# Altium integrated library Memory - EEPROM.IntLib: 163 symbols (part 3 of 3)
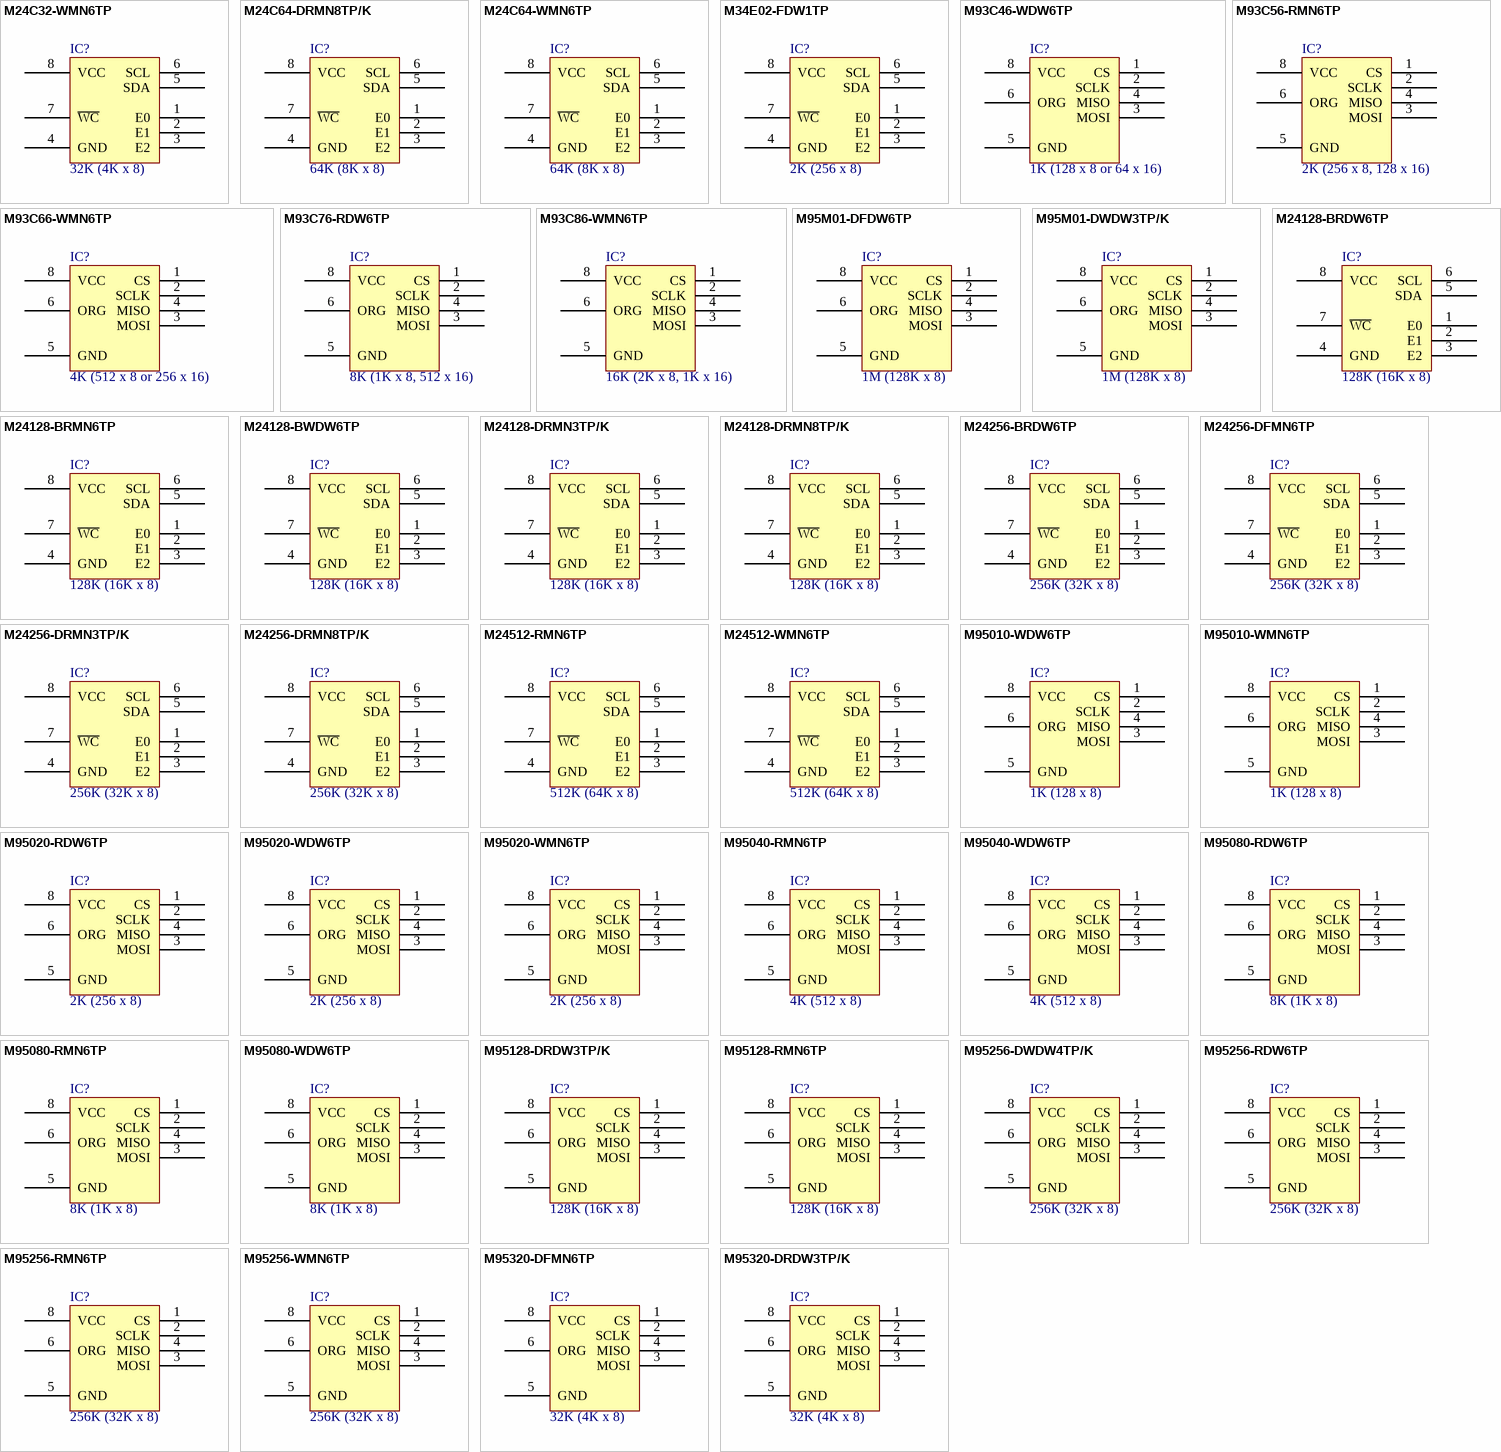
[diagram p6: symbols M24C32-WMN6TP to M95320-DRDW3TP/K]

## M24C64-DRMN8TP/K
designator IC?, comment 64K (8K x 8)
IC EEPROM 64KB SER I2C 8SOIC; Part Number: M24C64-DRMN8TP/K; Manufacturer: STMicroelectronics; Speed: 1MHz; Interface: IC, 2-Wire Serial; Voltage - Supply: 1.8 V ~ 5.5 V; PartId: 8352; Supplier 1: Digi-Key; Supplier Part Number 1: 497-15353-2-ND; ComponentLink1Description: Datasheet; ComponentLink1URL: http://www.st.com/web/en/resource/technical/document/datasheet/DM00155869.pdf; ComponentLink2Description: Digi-Key Listing; ComponentLink2URL: http://www.digikey.com/product-detail/en/M24C64-DRMN8TP%2FK/497-15353-2-ND/5175403; Price: 0.2532; Type: EEPROM; Device Package: 8-SOIC (0.154", 3.90mm Width); Operating Temperature: -40C ~ 105C; Memory Type: EEPROM; Memory Size: 64K (8K x 8)
footprint ST SOIC-8N
pins: 1 E0, 2 E1, 3 E2, 4 GND, 5 SDA, 6 SCL, 7 ~{WC}, 8 VCC

## M24C64-WMN6TP
designator IC?, comment 64K (8K x 8)
IC EEPROM 64KBIT 400KHZ 8SO; Part Number: M24C64-WMN6TP; Manufacturer: STMicroelectronics; Interface: IC, 2-Wire Serial; Voltage - Supply: 2.5 V ~ 5.5 V; PartId: 8345; Supplier 1: Digi-Key; Supplier Part Number 1: 497-8650-2-ND; ComponentLink1Description: Datasheet; ComponentLink1URL: http://www.st.com/web/en/resource/technical/document/datasheet/CD00259166.pdf; ComponentLink2Description: Digi-Key Listing; ComponentLink2URL: http://www.digikey.com/product-detail/en/M24C64-WMN6TP/497-8650-2-ND/699575; Price: 0.1732; Type: EEPROM; Device Package: 8-SOIC (0.154", 3.90mm Width); Operating Temperature: -40C ~ 85C; Memory Type: EEPROM; Memory Size: 64K (8K x 8); Speed: 400kHz
footprint ST SOIC-8N
pins: 1 E0, 2 E1, 3 E2, 4 GND, 5 SDA, 6 SCL, 7 ~{WC}, 8 VCC

## M34E02-FDW1TP
designator IC?, comment 2K (256 x 8)
IC EEPROM 2KBIT 400KHZ 8TSSOP; Part Number: M34E02-FDW1TP; Manufacturer: STMicroelectronics; Interface: IC, 2-Wire Serial; Voltage - Supply: 1.7 V ~ 3.6 V; PartId: 8300; Supplier 1: Digi-Key; Supplier Part Number 1: 497-8654-2-ND; ComponentLink1Description: Datasheet; ComponentLink1URL: http://www.st.com/web/en/resource/technical/document/datasheet/CD00017686.pdf; ComponentLink2Description: Digi-Key Listing; ComponentLink2URL: http://www.digikey.com/product-detail/en/M34E02-FDW1TP/497-8654-2-ND/1663976; Price: 0.1396; Type: EEPROM; Device Package: 8-TSSOP (0.173", 4.40mm Width); Operating Temperature: 0C ~ 70C; Memory Type: EEPROM; Memory Size: 2K (256 x 8); Speed: 400kHz
footprint ST TSSOP-8
pins: 1 E0, 2 E1, 3 E2, 4 GND, 5 SDA, 6 SCL, 7 ~{WC}, 8 VCC

## M93C46-WDW6TP
designator IC?, comment 1K (128 x 8 or 64 x 16)
IC EEPROM 1KBIT 2MHZ 8TSSOP; Part Number: M93C46-WDW6TP; Manufacturer: STMicroelectronics; Interface: Microwire, 3-Wire Serial; Voltage - Supply: 2.5 V ~ 5.5 V; PartId: 8294; Supplier 1: Digi-Key; Supplier Part Number 1: 497-8655-2-ND; ComponentLink1Description: Datasheet; ComponentLink1URL: http://www.st.com/web/en/resource/technical/document/datasheet/CD00001142.pdf; ComponentLink2Description: Digi-Key Listing; ComponentLink2URL: http://www.digikey.com/product-detail/en/M93C46-WDW6TP/497-8655-2-ND/1664121; Price: 0.0967; Type: EEPROM; Device Package: 8-TSSOP (0.173", 4.40mm Width); Operating Temperature: -40C ~ 85C; Memory Type: EEPROM; Memory Size: 1K (128 x 8 or 64 x 16); Speed: 2MHz
footprint ST TSSOP-8
pins: 1 CS, 2 SCLK, 3 MOSI, 4 MISO, 5 GND, 6 ORG, 8 VCC

## M93C56-RMN6TP
designator IC?, comment 2K (256 x 8, 128 x 16)
IC EEPROM 2KBIT 1MHZ 8SO; Part Number: M93C56-RMN6TP; Manufacturer: STMicroelectronics; Interface: Microwire, 3-Wire Serial; Voltage - Supply: 1.8 V ~ 5.5 V; PartId: 8421; Supplier 1: Digi-Key; Supplier Part Number 1: 497-8656-2-ND; ComponentLink1Description: Datasheet; ComponentLink1URL: http://www.st.com/web/en/resource/technical/document/datasheet/CD00001142.pdf; ComponentLink2Description: Digi-Key Listing; ComponentLink2URL: http://www.digikey.com/product-detail/en/M93C56-RMN6TP/497-8656-2-ND/1664128; Price: 0.1241; Type: EEPROM; Device Package: 8-SOIC (0.154", 3.90mm Width); Operating Temperature: -40C ~ 85C; Memory Type: EEPROM; Memory Size: 2K (256 x 8, 128 x 16); Speed: 1MHz
footprint ST SOIC-8N
pins: 1 CS, 2 SCLK, 3 MOSI, 4 MISO, 5 GND, 6 ORG, 8 VCC

## M93C66-WMN6TP
designator IC?, comment 4K (512 x 8 or 256 x 16)
IC EEPROM 4KBIT 2MHZ 8SO; Part Number: M93C66-WMN6TP; Manufacturer: STMicroelectronics; Interface: Microwire, 3-Wire Serial; Voltage - Supply: 2.5 V ~ 5.5 V; PartId: 8422; Supplier 1: Digi-Key; Supplier Part Number 1: 497-8660-2-ND; ComponentLink1Description: Datasheet; ComponentLink1URL: http://www.st.com/web/en/resource/technical/document/datasheet/CD00001142.pdf; ComponentLink2Description: Digi-Key Listing; ComponentLink2URL: http://www.digikey.com/product-detail/en/M93C66-WMN6TP/497-8660-2-ND/1664138; Price: 0.1388; Type: EEPROM; Device Package: 8-SOIC (0.154", 3.90mm Width); Operating Temperature: -40C ~ 85C; Memory Type: EEPROM; Memory Size: 4K (512 x 8 or 256 x 16); Speed: 2MHz
footprint ST SOIC-8N
pins: 1 CS, 2 SCLK, 3 MOSI, 4 MISO, 5 GND, 6 ORG, 8 VCC

## M93C76-RDW6TP
designator IC?, comment 8K (1K x 8, 512 x 16)
IC EEPROM 8KBIT 1MHZ 8TSSOP; Part Number: M93C76-RDW6TP; Manufacturer: STMicroelectronics; Interface: Microwire, 3-Wire Serial; Voltage - Supply: 1.8 V ~ 5.5 V; PartId: 8455; Supplier 1: Digi-Key; Supplier Part Number 1: 497-8661-2-ND; ComponentLink1Description: Datasheet; ComponentLink1URL: http://www.st.com/web/en/resource/technical/document/datasheet/CD00001142.pdf; ComponentLink2Description: Digi-Key Listing; ComponentLink2URL: http://www.digikey.com/product-detail/en/M93C76-RDW6TP/497-8661-2-ND/1852301; Price: 0.1826; Type: EEPROM; Device Package: 8-TSSOP (0.173", 4.40mm Width); Operating Temperature: -40C ~ 85C; Memory Type: EEPROM; Memory Size: 8K (1K x 8, 512 x 16); Speed: 1MHz
footprint ST TSSOP-8
pins: 1 CS, 2 SCLK, 3 MOSI, 4 MISO, 5 GND, 6 ORG, 8 VCC

## M93C86-WMN6TP
designator IC?, comment 16K (2K x 8, 1K x 16)
IC EEPROM 16KBIT 2MHZ 8SO; Part Number: M93C86-WMN6TP; Manufacturer: STMicroelectronics; Interface: Microwire, 3-Wire Serial; Voltage - Supply: 2.5 V ~ 5.5 V; PartId: 8428; Supplier 1: Digi-Key; Supplier Part Number 1: 497-8665-2-ND; ComponentLink1Description: Datasheet; ComponentLink1URL: http://www.st.com/web/en/resource/technical/document/datasheet/CD00001142.pdf; ComponentLink2Description: Digi-Key Listing; ComponentLink2URL: http://www.digikey.com/product-detail/en/M93C86-WMN6TP/497-8665-2-ND/1664149; Price: 0.2091; Type: EEPROM; Device Package: 8-SOIC (0.154", 3.90mm Width); Operating Temperature: -40C ~ 85C; Memory Type: EEPROM; Memory Size: 16K (2K x 8, 1K x 16); Speed: 2MHz
footprint ST SOIC-8N
pins: 1 CS, 2 SCLK, 3 MOSI, 4 MISO, 5 GND, 6 ORG, 8 VCC

## M95M01-DFDW6TP
designator IC?, comment 1M (128K x 8)
IC EEPROM 1MBIT 16MHZ 8TSSOP; Part Number: M95M01-DFDW6TP; Manufacturer: STMicroelectronics; Interface: SPI Serial; Voltage - Supply: 1.7 V ~ 5.5 V; PartId: 8453; Supplier 1: Digi-Key; Supplier Part Number 1: 497-15781-2-ND; ComponentLink1Description: Datasheet; ComponentLink1URL: http://www.st.com/web/en/resource/technical/document/datasheet/CD00152481.pdf; ComponentLink2Description: Digi-Key Listing; ComponentLink2URL: http://www.digikey.com/product-detail/en/M95M01-DFDW6TP/497-15781-2-ND/4357400; Price: 1.0885; Type: EEPROM; Device Package: 8-TSSOP (0.173", 4.40mm Width); Operating Temperature: -40C ~ 85C; Memory Type: EEPROM; Memory Size: 1M (128K x 8); Speed: 16MHz
footprint ST TSSOP-8
pins: 1 CS, 2 SCLK, 3 MOSI, 4 MISO, 5 GND, 6 ORG, 8 VCC

## M95M01-DWDW3TP/K
designator IC?, comment 1M (128K x 8)
EEPROM SPI 1MB 8TSSOP; Part Number: M95M01-DWDW3TP/K; Manufacturer: STMicroelectronics; Speed: 16MHz; Interface: SPI Serial; Voltage - Supply: 2.5 V ~ 5.5 V; PartId: 8443; Supplier 1: Digi-Key; Supplier Part Number 1: 497-14463-2-ND; ComponentLink1Description: Datasheet; ComponentLink1URL: http://www.st.com/web/en/resource/technical/document/datasheet/DM00055596.pdf; ComponentLink2Description: Digi-Key Listing; ComponentLink2URL: http://www.digikey.com/product-detail/en/M95M01-DWDW3TP%2FK/497-14463-2-ND/4729267; Price: 1.3662; Type: EEPROM; Device Package: 8-TSSOP (0.173", 4.40mm Width); Operating Temperature: -40C ~ 125C; Memory Type: EEPROM; Memory Size: 1M (128K x 8)
footprint ST TSSOP-8
pins: 1 CS, 2 SCLK, 3 MOSI, 4 MISO, 5 GND, 6 ORG, 8 VCC

## M24128-BRDW6TP
designator IC?, comment 128K (16K x 8)
IC EEPROM 128KBIT 400KHZ 8TSSOP; Part Number: M24128-BRDW6TP; Manufacturer: STMicroelectronics; Interface: IC, 2-Wire Serial; Voltage - Supply: 1.8 V ~ 5.5 V; PartId: 8305; Supplier 1: Digi-Key; Supplier Part Number 1: 497-8618-2-ND; ComponentLink1Description: Datasheet; ComponentLink1URL: http://www.st.com/web/en/resource/technical/document/datasheet/CD00259167.pdf; ComponentLink2Description: Digi-Key Listing; ComponentLink2URL: http://www.digikey.com/product-detail/en/M24128-BRDW6TP/497-8618-2-ND/1663538; Price: 0.2225; Type: EEPROM; Device Package: 8-TSSOP (0.173", 4.40mm Width); Operating Temperature: -40C ~ 85C; Memory Type: EEPROM; Memory Size: 128K (16K x 8); Speed: 400kHz
footprint ST TSSOP-8
pins: 1 E0, 2 E1, 3 E2, 4 GND, 5 SDA, 6 SCL, 7 ~{WC}, 8 VCC

## M24128-BRMN6TP
designator IC?, comment 128K (16K x 8)
IC EEPROM 128KBIT 400KHZ 8SO; Part Number: M24128-BRMN6TP; Manufacturer: STMicroelectronics; Interface: IC, 2-Wire Serial; Voltage - Supply: 1.8 V ~ 5.5 V; PartId: 8349; Supplier 1: Digi-Key; Supplier Part Number 1: 497-8619-2-ND; ComponentLink1Description: Datasheet; ComponentLink1URL: http://www.st.com/web/en/resource/technical/document/datasheet/CD00259167.pdf; ComponentLink2Description: Digi-Key Listing; ComponentLink2URL: http://www.digikey.com/product-detail/en/M24128-BRMN6TP/497-8619-2-ND/1663539; Price: 0.2287; Type: EEPROM; Device Package: 8-SOIC (0.154", 3.90mm Width); Operating Temperature: -40C ~ 85C; Memory Type: EEPROM; Memory Size: 128K (16K x 8); Speed: 400kHz
footprint ST SOIC-8N
pins: 1 E0, 2 E1, 3 E2, 4 GND, 5 SDA, 6 SCL, 7 ~{WC}, 8 VCC

## M24128-BWDW6TP
designator IC?, comment 128K (16K x 8)
IC EEPROM 128KBIT 400KHZ 8TSSOP; Part Number: M24128-BWDW6TP; Manufacturer: STMicroelectronics; Interface: IC, 2-Wire Serial; Voltage - Supply: 2.5 V ~ 5.5 V; PartId: 8306; Supplier 1: Digi-Key; Supplier Part Number 1: 497-8620-2-ND; ComponentLink1Description: Datasheet; ComponentLink1URL: http://www.st.com/web/en/resource/technical/document/datasheet/CD00259167.pdf; ComponentLink2Description: Digi-Key Listing; ComponentLink2URL: http://www.digikey.com/product-detail/en/M24128-BWDW6TP/497-8620-2-ND/1852256; Price: 0.2225; Type: EEPROM; Device Package: 8-TSSOP (0.173", 4.40mm Width); Operating Temperature: -40C ~ 85C; Memory Type: EEPROM; Memory Size: 128K (16K x 8); Speed: 400kHz
footprint ST TSSOP-8
pins: 1 E0, 2 E1, 3 E2, 4 GND, 5 SDA, 6 SCL, 7 ~{WC}, 8 VCC

## M24128-DRMN3TP/K
designator IC?, comment 128K (16K x 8)
EEPROM I2C 128KB 8SOIC; Part Number: M24128-DRMN3TP/K; Manufacturer: STMicroelectronics; Speed: 1MHz; Interface: IC, 2-Wire Serial; Voltage - Supply: 1.8 V ~ 5.5 V; PartId: 8356; Supplier 1: Digi-Key; Supplier Part Number 1: 497-14419-2-ND; ComponentLink1Description: Datasheet; ComponentLink1URL: http://www.st.com/web/en/resource/technical/document/datasheet/DM00068315.pdf; ComponentLink2Description: Digi-Key Listing; ComponentLink2URL: http://www.digikey.com/product-detail/en/M24128-DRMN3TP%2FK/497-14419-2-ND/4729223; Price: 0.4752; Type: EEPROM; Device Package: 8-SOIC (0.154", 3.90mm Width); Operating Temperature: -40C ~ 125C; Memory Type: EEPROM; Memory Size: 128K (16K x 8)
footprint ST SOIC-8N
pins: 1 E0, 2 E1, 3 E2, 4 GND, 5 SDA, 6 SCL, 7 ~{WC}, 8 VCC

## M24128-DRMN8TP/K
designator IC?, comment 128K (16K x 8)
IC EEPROM 128KB SER I2C 8SOIC; Part Number: M24128-DRMN8TP/K; Manufacturer: STMicroelectronics; Speed: 1MHz; Interface: IC, 2-Wire Serial; Voltage - Supply: 1.8 V ~ 5.5 V; PartId: 8353; Supplier 1: Digi-Key; Supplier Part Number 1: 497-15337-2-ND; ComponentLink1Description: Datasheet; ComponentLink1URL: http://www.st.com/web/en/resource/technical/document/datasheet/DM00149696.pdf; ComponentLink2Description: Digi-Key Listing; ComponentLink2URL: http://www.digikey.com/product-detail/en/M24128-DRMN8TP%2FK/497-15337-2-ND/5175387; Price: 0.3268; Type: EEPROM; Device Package: 8-SOIC (0.154", 3.90mm Width); Operating Temperature: -40C ~ 105C; Memory Type: EEPROM; Memory Size: 128K (16K x 8)
footprint ST SOIC-8N
pins: 1 E0, 2 E1, 3 E2, 4 GND, 5 SDA, 6 SCL, 7 ~{WC}, 8 VCC

## M24256-BRDW6TP
designator IC?, comment 256K (32K x 8)
IC EEPROM 256KBIT 1MHZ 8TSSOP; Part Number: M24256-BRDW6TP; Manufacturer: STMicroelectronics; Interface: IC, 2-Wire Serial; Voltage - Supply: 1.8 V ~ 5.5 V; PartId: 8307; Supplier 1: Digi-Key; Supplier Part Number 1: 497-6347-2-ND; ComponentLink1Description: Datasheet; ComponentLink1URL: http://www.st.com/web/en/resource/technical/document/datasheet/CD00001891.pdf; ComponentLink2Description: Digi-Key Listing; ComponentLink2URL: http://www.digikey.com/product-detail/en/M24256-BRDW6TP/497-6347-2-ND/1827915; Price: 0.2302; Type: EEPROM; Device Package: 8-TSSOP (0.173", 4.40mm Width); Operating Temperature: -40C ~ 85C; Memory Type: EEPROM; Memory Size: 256K (32K x 8); Speed: 1MHz
footprint ST TSSOP-8
pins: 1 E0, 2 E1, 3 E2, 4 GND, 5 SDA, 6 SCL, 7 ~{WC}, 8 VCC

## M24256-DFMN6TP
designator IC?, comment 256K (32K x 8)
IC EEPROM 256KBIT 1MHZ 8SOIC; Part Number: M24256-DFMN6TP; Manufacturer: STMicroelectronics; Interface: IC, 2-Wire Serial; Voltage - Supply: 1.7 V ~ 5.5 V; PartId: 8350; Supplier 1: Digi-Key; Supplier Part Number 1: 497-15743-2-ND; ComponentLink1Description: Datasheet; ComponentLink1URL: http://www.st.com/web/en/resource/technical/document/datasheet/CD00001891.pdf; ComponentLink2Description: Digi-Key Listing; ComponentLink2URL: http://www.digikey.com/product-detail/en/M24256-DFMN6TP/497-15743-2-ND/4357379; Price: 0.2451; Type: EEPROM; Device Package: 8-SOIC (0.154", 3.90mm Width); Operating Temperature: -40C ~ 85C; Memory Type: EEPROM; Memory Size: 256K (32K x 8); Speed: 1MHz
footprint ST SOIC-8N
pins: 1 E0, 2 E1, 3 E2, 4 GND, 5 SDA, 6 SCL, 7 ~{WC}, 8 VCC

## M24256-DRMN3TP/K
designator IC?, comment 256K (32K x 8)
EEPROM I2C 256KB 8SOIC; Part Number: M24256-DRMN3TP/K; Manufacturer: STMicroelectronics; Speed: 1MHz; Interface: IC, 2-Wire Serial; Voltage - Supply: 1.8 V ~ 5.5 V; PartId: 8358; Supplier 1: Digi-Key; Supplier Part Number 1: 497-14421-2-ND; ComponentLink1Description: Datasheet; ComponentLink1URL: http://www.st.com/web/en/resource/technical/document/datasheet/CD00001891.pdf; ComponentLink2Description: Digi-Key Listing; ComponentLink2URL: http://www.digikey.com/product-detail/en/M24256-DRMN3TP%2FK/497-14421-2-ND/4729225; Price: 0.5385; Type: EEPROM; Device Package: 8-SOIC (0.154", 3.90mm Width); Operating Temperature: -40C ~ 125C; Memory Type: EEPROM; Memory Size: 256K (32K x 8)
footprint ST SOIC-8N
pins: 1 E0, 2 E1, 3 E2, 4 GND, 5 SDA, 6 SCL, 7 ~{WC}, 8 VCC

## M24256-DRMN8TP/K
designator IC?, comment 256K (32K x 8)
IC EEPROM 256KB SER I2C 8SOIC; Part Number: M24256-DRMN8TP/K; Manufacturer: STMicroelectronics; Speed: 1MHz; Interface: IC, 2-Wire Serial; Voltage - Supply: 1.8 V ~ 5.5 V; PartId: 8354; Supplier 1: Digi-Key; Supplier Part Number 1: 497-15339-2-ND; ComponentLink1Description: Datasheet; ComponentLink1URL: http://www.st.com/web/en/resource/technical/document/datasheet/DM00157641.pdf; ComponentLink2Description: Digi-Key Listing; ComponentLink2URL: http://www.digikey.com/product-detail/en/M24256-DRMN8TP%2FK/497-15339-2-ND/5175389; Price: 0.3758; Type: EEPROM; Device Package: 8-SOIC (0.154", 3.90mm Width); Operating Temperature: -40C ~ 105C; Memory Type: EEPROM; Memory Size: 256K (32K x 8)
footprint ST SOIC-8N
pins: 1 E0, 2 E1, 3 E2, 4 GND, 5 SDA, 6 SCL, 7 ~{WC}, 8 VCC

## M24512-RMN6TP
designator IC?, comment 512K (64K x 8)
IC EEPROM 512KBIT 1MHZ 8SO; Part Number: M24512-RMN6TP; Manufacturer: STMicroelectronics; Interface: IC, 2-Wire Serial; Voltage - Supply: 1.8 V ~ 5.5 V; PartId: 8355; Supplier 1: Digi-Key; Supplier Part Number 1: 497-6350-2-ND; ComponentLink1Description: Datasheet; ComponentLink1URL: http://www.st.com/web/en/resource/technical/document/datasheet/CD00251873.pdf; ComponentLink2Description: Digi-Key Listing; ComponentLink2URL: http://www.digikey.com/product-detail/en/M24512-RMN6TP/497-6350-2-ND/1827918; Price: 0.4752; Type: EEPROM; Device Package: 8-SOIC (0.154", 3.90mm Width); Operating Temperature: -40C ~ 85C; Memory Type: EEPROM; Memory Size: 512K (64K x 8); Speed: 1MHz
footprint ST SOIC-8N
pins: 1 E0, 2 E1, 3 E2, 4 GND, 5 SDA, 6 SCL, 7 ~{WC}, 8 VCC

## M24512-WMN6TP
designator IC?, comment 512K (64K x 8)
IC EEPROM 512KBIT 1MHZ 8SO; Part Number: M24512-WMN6TP; Manufacturer: STMicroelectronics; Interface: IC, 2-Wire Serial; Voltage - Supply: 2.5 V ~ 5.5 V; PartId: 8357; Supplier 1: Digi-Key; Supplier Part Number 1: 497-8626-2-ND; ComponentLink1Description: Datasheet; ComponentLink1URL: http://www.st.com/web/en/resource/technical/document/datasheet/CD00251873.pdf; ComponentLink2Description: Digi-Key Listing; ComponentLink2URL: http://www.digikey.com/product-detail/en/M24512-WMN6TP/497-8626-2-ND/1852261; Price: 0.5068; Type: EEPROM; Device Package: 8-SOIC (0.154", 3.90mm Width); Operating Temperature: -40C ~ 85C; Memory Type: EEPROM; Memory Size: 512K (64K x 8); Speed: 1MHz
footprint ST SOIC-8N
pins: 1 E0, 2 E1, 3 E2, 4 GND, 5 SDA, 6 SCL, 7 ~{WC}, 8 VCC

## M95010-WDW6TP
designator IC?, comment 1K (128 x 8)
IC EEPROM 1KBIT 10MHZ 8TSSOP; Part Number: M95010-WDW6TP; Manufacturer: STMicroelectronics; Interface: SPI Serial; Voltage - Supply: 2.5 V ~ 5.5 V; PartId: 8447; Supplier 1: Digi-Key; Supplier Part Number 1: 497-8671-2-ND; ComponentLink1Description: Datasheet; ComponentLink1URL: http://www.st.com/web/en/resource/technical/document/datasheet/CD00001755.pdf; ComponentLink2Description: Digi-Key Listing; ComponentLink2URL: http://www.digikey.com/product-detail/en/M95010-WDW6TP/497-8671-2-ND/1664160; Price: 0.1412; Type: EEPROM; Device Package: 8-TSSOP (0.173", 4.40mm Width); Operating Temperature: -40C ~ 85C; Memory Type: EEPROM; Memory Size: 1K (128 x 8); Speed: 10MHz
footprint ST TSSOP-8
pins: 1 CS, 2 SCLK, 3 MOSI, 4 MISO, 5 GND, 6 ORG, 8 VCC

## M95010-WMN6TP
designator IC?, comment 1K (128 x 8)
IC EEPROM 1KBIT 10MHZ 8SO; Part Number: M95010-WMN6TP; Manufacturer: STMicroelectronics; Interface: SPI Serial; Voltage - Supply: 2.5 V ~ 5.5 V; PartId: 8423; Supplier 1: Digi-Key; Supplier Part Number 1: 497-8672-2-ND; ComponentLink1Description: Datasheet; ComponentLink1URL: http://www.st.com/web/en/resource/technical/document/datasheet/CD00001755.pdf; ComponentLink2Description: Digi-Key Listing; ComponentLink2URL: http://www.digikey.com/product-detail/en/M95010-WMN6TP/497-8672-2-ND/1664162; Price: 0.147; Type: EEPROM; Device Package: 8-SOIC (0.154", 3.90mm Width); Operating Temperature: -40C ~ 85C; Memory Type: EEPROM; Memory Size: 1K (128 x 8); Speed: 10MHz
footprint ST SOIC-8N
pins: 1 CS, 2 SCLK, 3 MOSI, 4 MISO, 5 GND, 6 ORG, 8 VCC

## M95020-RDW6TP
designator IC?, comment 2K (256 x 8)
IC EEPROM 2KBIT 5MHZ 8TSSOP; Part Number: M95020-RDW6TP; Manufacturer: STMicroelectronics; Interface: SPI Serial; Voltage - Supply: 1.8 V ~ 5.5 V; PartId: 8448; Supplier 1: Digi-Key; Supplier Part Number 1: 497-8673-2-ND; ComponentLink1Description: Datasheet; ComponentLink1URL: http://www.st.com/web/en/resource/technical/document/datasheet/CD00001755.pdf; ComponentLink2Description: Digi-Key Listing; ComponentLink2URL: http://www.digikey.com/product-detail/en/M95020-RDW6TP/497-8673-2-ND/1852305; Price: 0.1473; Type: EEPROM; Device Package: 8-TSSOP (0.173", 4.40mm Width); Operating Temperature: -40C ~ 85C; Memory Type: EEPROM; Memory Size: 2K (256 x 8); Speed: 5MHz
footprint ST TSSOP-8
pins: 1 CS, 2 SCLK, 3 MOSI, 4 MISO, 5 GND, 6 ORG, 8 VCC

## M95020-WDW6TP
designator IC?, comment 2K (256 x 8)
IC EEPROM 2KBIT 10MHZ 8TSSOP; Part Number: M95020-WDW6TP; Manufacturer: STMicroelectronics; Interface: SPI Serial; Voltage - Supply: 2.5 V ~ 5.5 V; PartId: 8454; Supplier 1: Digi-Key; Supplier Part Number 1: 497-8675-2-ND; ComponentLink1Description: Datasheet; ComponentLink1URL: http://www.st.com/web/en/resource/technical/document/datasheet/CD00001755.pdf; ComponentLink2Description: Digi-Key Listing; ComponentLink2URL: http://www.digikey.com/product-detail/en/M95020-WDW6TP/497-8675-2-ND/1664163; Price: 0.1473; Type: EEPROM; Device Package: 8-TSSOP (0.173", 4.40mm Width); Operating Temperature: -40C ~ 85C; Memory Type: EEPROM; Memory Size: 2K (256 x 8); Speed: 10MHz
footprint ST TSSOP-8
pins: 1 CS, 2 SCLK, 3 MOSI, 4 MISO, 5 GND, 6 ORG, 8 VCC

## M95020-WMN6TP
designator IC?, comment 2K (256 x 8)
IC EEPROM 2KBIT 10MHZ 8SO; Part Number: M95020-WMN6TP; Manufacturer: STMicroelectronics; Interface: SPI Serial; Voltage - Supply: 2.5 V ~ 5.5 V; PartId: 8425; Supplier 1: Digi-Key; Supplier Part Number 1: 497-8676-2-ND; ComponentLink1Description: Datasheet; ComponentLink1URL: http://www.st.com/web/en/resource/technical/document/datasheet/CD00001755.pdf; ComponentLink2Description: Digi-Key Listing; ComponentLink2URL: http://www.digikey.com/product-detail/en/M95020-WMN6TP/497-8676-2-ND/1664166; Price: 0.1536; Type: EEPROM; Device Package: 8-SOIC (0.154", 3.90mm Width); Operating Temperature: -40C ~ 85C; Memory Type: EEPROM; Memory Size: 2K (256 x 8); Speed: 10MHz
footprint ST SOIC-8N
pins: 1 CS, 2 SCLK, 3 MOSI, 4 MISO, 5 GND, 6 ORG, 8 VCC

## M95040-RMN6TP
designator IC?, comment 4K (512 x 8)
IC EEPROM 4KBIT 5MHZ 8SO; Part Number: M95040-RMN6TP; Manufacturer: STMicroelectronics; Interface: SPI Serial; Voltage - Supply: 1.8 V ~ 5.5 V; PartId: 8427; Supplier 1: Digi-Key; Supplier Part Number 1: 497-8678-2-ND; ComponentLink1Description: Datasheet; ComponentLink1URL: http://www.st.com/web/en/resource/technical/document/datasheet/CD00001755.pdf; ComponentLink2Description: Digi-Key Listing; ComponentLink2URL: http://www.digikey.com/product-detail/en/M95040-RMN6TP/497-8678-2-ND/1852311; Price: 0.183; Type: EEPROM; Device Package: 8-SOIC (0.154", 3.90mm Width); Operating Temperature: -40C ~ 85C; Memory Type: EEPROM; Memory Size: 4K (512 x 8); Speed: 5MHz
footprint ST SOIC-8N
pins: 1 CS, 2 SCLK, 3 MOSI, 4 MISO, 5 GND, 6 ORG, 8 VCC

## M95040-WDW6TP
designator IC?, comment 4K (512 x 8)
IC EEPROM 4KBIT 10MHZ 8TSSOP; Part Number: M95040-WDW6TP; Manufacturer: STMicroelectronics; Interface: SPI Serial; Voltage - Supply: 2.5 V ~ 5.5 V; PartId: 8445; Supplier 1: Digi-Key; Supplier Part Number 1: 497-8679-2-ND; ComponentLink1Description: Datasheet; ComponentLink1URL: http://www.st.com/web/en/resource/technical/document/datasheet/CD00001755.pdf; ComponentLink2Description: Digi-Key Listing; ComponentLink2URL: http://www.digikey.com/product-detail/en/M95040-WDW6TP/497-8679-2-ND/1664168; Price: 0.1888; Type: EEPROM; Device Package: 8-TSSOP (0.173", 4.40mm Width); Operating Temperature: -40C ~ 85C; Memory Type: EEPROM; Memory Size: 4K (512 x 8); Speed: 10MHz
footprint ST TSSOP-8
pins: 1 CS, 2 SCLK, 3 MOSI, 4 MISO, 5 GND, 6 ORG, 8 VCC

## M95080-RDW6TP
designator IC?, comment 8K (1K x 8)
IC EEPROM 8KBIT 5MHZ 8TSSOP; Part Number: M95080-RDW6TP; Manufacturer: STMicroelectronics; Interface: SPI Serial; Voltage - Supply: 1.8 V ~ 5.5 V; PartId: 8456; Supplier 1: Digi-Key; Supplier Part Number 1: 497-8680-2-ND; ComponentLink1Description: Datasheet; ComponentLink1URL: http://www.st.com/web/en/resource/technical/document/datasheet/DM00043274.pdf; ComponentLink2Description: Digi-Key Listing; ComponentLink2URL: http://www.digikey.com/product-detail/en/M95080-RDW6TP/497-8680-2-ND/1664174; Price: 0.1857; Type: EEPROM; Device Package: 8-TSSOP (0.173", 4.40mm Width); Operating Temperature: -40C ~ 85C; Memory Type: EEPROM; Memory Size: 8K (1K x 8); Speed: 5MHz
footprint ST TSSOP-8
pins: 1 CS, 2 SCLK, 3 MOSI, 4 MISO, 5 GND, 6 ORG, 8 VCC

## M95080-RMN6TP
designator IC?, comment 8K (1K x 8)
IC EEPROM 8KBIT 5MHZ 8SO; Part Number: M95080-RMN6TP; Manufacturer: STMicroelectronics; Interface: SPI Serial; Voltage - Supply: 1.8 V ~ 5.5 V; PartId: 8426; Supplier 1: Digi-Key; Supplier Part Number 1: 497-8681-2-ND; ComponentLink1Description: Datasheet; ComponentLink1URL: http://www.st.com/web/en/resource/technical/document/datasheet/DM00043274.pdf; ComponentLink2Description: Digi-Key Listing; ComponentLink2URL: http://www.digikey.com/product-detail/en/M95080-RMN6TP/497-8681-2-ND/1852314; Price: 0.1813; Type: EEPROM; Device Package: 8-SOIC (0.154", 3.90mm Width); Operating Temperature: -40C ~ 85C; Memory Type: EEPROM; Memory Size: 8K (1K x 8); Speed: 5MHz
footprint ST SOIC-8N
pins: 1 CS, 2 SCLK, 3 MOSI, 4 MISO, 5 GND, 6 ORG, 8 VCC

## M95080-WDW6TP
designator IC?, comment 8K (1K x 8)
IC EEPROM 8KBIT 10MHZ 8TSSOP; Part Number: M95080-WDW6TP; Manufacturer: STMicroelectronics; Interface: SPI Serial; Voltage - Supply: 2.5 V ~ 5.5 V; PartId: 8444; Supplier 1: Digi-Key; Supplier Part Number 1: 497-8682-2-ND; ComponentLink1Description: Datasheet; ComponentLink1URL: http://www.st.com/web/en/resource/technical/document/datasheet/DM00043274.pdf; ComponentLink2Description: Digi-Key Listing; ComponentLink2URL: http://www.digikey.com/product-detail/en/M95080-WDW6TP/497-8682-2-ND/1664175; Price: 0.1857; Type: EEPROM; Device Package: 8-TSSOP (0.173", 4.40mm Width); Operating Temperature: -40C ~ 85C; Memory Type: EEPROM; Memory Size: 8K (1K x 8); Speed: 10MHz
footprint ST TSSOP-8
pins: 1 CS, 2 SCLK, 3 MOSI, 4 MISO, 5 GND, 6 ORG, 8 VCC

## M95128-DRDW3TP/K
designator IC?, comment 128K (16K x 8)
EEPROM SPI 2KB 8TSSOP; Part Number: M95128-DRDW3TP/K; Manufacturer: STMicroelectronics; Speed: 20MHz; Interface: SPI Serial; Voltage - Supply: 1.8 V ~ 5.5 V; PartId: 8450; Supplier 1: Digi-Key; Supplier Part Number 1: 497-14446-2-ND; ComponentLink1Description: Datasheet; ComponentLink1URL: http://www.st.com/web/en/resource/technical/document/datasheet/DM00053030.pdf; ComponentLink2Description: Digi-Key Listing; ComponentLink2URL: http://www.digikey.com/product-detail/en/M95128-DRDW3TP%2FK/497-14446-2-ND/4729250; Price: 0.4803; Type: EEPROM; Device Package: 8-TSSOP (0.173", 4.40mm Width); Operating Temperature: -40C ~ 125C; Memory Type: EEPROM; Memory Size: 128K (16K x 8)
footprint ST TSSOP-8
pins: 1 CS, 2 SCLK, 3 MOSI, 4 MISO, 5 GND, 6 ORG, 8 VCC

## M95128-RMN6TP
designator IC?, comment 128K (16K x 8)
IC EEPROM 128KBIT 2MHZ 8SO; Part Number: M95128-RMN6TP; Manufacturer: STMicroelectronics; Interface: SPI Serial; Voltage - Supply: 1.8 V ~ 5.5 V; PartId: 8431; Supplier 1: Digi-Key; Supplier Part Number 1: 497-8685-2-ND; ComponentLink1Description: Datasheet; ComponentLink1URL: http://www.st.com/web/en/resource/technical/document/datasheet/CD00001441.pdf; ComponentLink2Description: Digi-Key Listing; ComponentLink2URL: http://www.digikey.com/product-detail/en/M95128-RMN6TP/497-8685-2-ND/1664181; Price: 0.3431; Type: EEPROM; Device Package: 8-SOIC (0.154", 3.90mm Width); Operating Temperature: -40C ~ 85C; Memory Type: EEPROM; Memory Size: 128K (16K x 8); Speed: 2MHz
footprint ST SOIC-8N
pins: 1 CS, 2 SCLK, 3 MOSI, 4 MISO, 5 GND, 6 ORG, 8 VCC

## M95256-DWDW4TP/K
designator IC?, comment 256K (32K x 8)
EEPROM SPI 256KB 8TSSOP; Part Number: M95256-DWDW4TP/K; Manufacturer: STMicroelectronics; Speed: 10MHz; Interface: SPI Serial; Voltage - Supply: 2.5 V ~ 5.5 V; PartId: 8452; Supplier 1: Digi-Key; Supplier Part Number 1: 497-14453-2-ND; ComponentLink1Description: Datasheet; ComponentLink1URL: http://www.st.com/web/en/resource/technical/document/datasheet/DM00048493.pdf; ComponentLink2Description: Digi-Key Listing; ComponentLink2URL: http://www.digikey.com/product-detail/en/M95256-DWDW4TP%2FK/497-14453-2-ND/4729257; Price: 0.8019; Type: EEPROM; Device Package: 8-TSSOP (0.173", 4.40mm Width); Operating Temperature: -40C ~ 145C; Memory Type: EEPROM; Memory Size: 256K (32K x 8)
footprint ST TSSOP-8
pins: 1 CS, 2 SCLK, 3 MOSI, 4 MISO, 5 GND, 6 ORG, 8 VCC

## M95256-RDW6TP
designator IC?, comment 256K (32K x 8)
IC EEPROM 256KBIT 2MHZ 8TSSOP; Part Number: M95256-RDW6TP; Manufacturer: STMicroelectronics; Interface: SPI Serial; Voltage - Supply: 1.8 V ~ 5.5 V; PartId: 8446; Supplier 1: Digi-Key; Supplier Part Number 1: 497-6352-2-ND; ComponentLink1Description: Datasheet; ComponentLink1URL: http://www.st.com/web/en/resource/technical/document/datasheet/CD00103810.pdf; ComponentLink2Description: Digi-Key Listing; ComponentLink2URL: http://www.digikey.com/product-detail/en/M95256-RDW6TP/497-6352-2-ND/1827920; Price: 0.4352; Type: EEPROM; Device Package: 8-TSSOP (0.173", 4.40mm Width); Operating Temperature: -40C ~ 85C; Memory Type: EEPROM; Memory Size: 256K (32K x 8); Speed: 2MHz
footprint ST TSSOP-8
pins: 1 CS, 2 SCLK, 3 MOSI, 4 MISO, 5 GND, 6 ORG, 8 VCC

## M95256-RMN6TP
designator IC?, comment 256K (32K x 8)
IC EEPROM 256KBIT 2MHZ 8SO; Part Number: M95256-RMN6TP; Manufacturer: STMicroelectronics; Interface: SPI Serial; Voltage - Supply: 1.8 V ~ 5.5 V; PartId: 8433; Supplier 1: Digi-Key; Supplier Part Number 1: 497-6354-2-ND; ComponentLink1Description: Datasheet; ComponentLink1URL: http://www.st.com/web/en/resource/technical/document/datasheet/CD00103810.pdf; ComponentLink2Description: Digi-Key Listing; ComponentLink2URL: http://www.digikey.com/product-detail/en/M95256-RMN6TP/497-6354-2-ND/1827922; Price: 0.4435; Type: EEPROM; Device Package: 8-SOIC (0.154", 3.90mm Width); Operating Temperature: -40C ~ 85C; Memory Type: EEPROM; Memory Size: 256K (32K x 8); Speed: 2MHz
footprint ST SOIC-8N
pins: 1 CS, 2 SCLK, 3 MOSI, 4 MISO, 5 GND, 6 ORG, 8 VCC

## M95256-WMN6TP
designator IC?, comment 256K (32K x 8)
IC EEPROM 256KBIT 5MHZ 8SO; Part Number: M95256-WMN6TP; Manufacturer: STMicroelectronics; Interface: SPI Serial; Voltage - Supply: 2.5 V ~ 5.5 V; PartId: 8432; Supplier 1: Digi-Key; Supplier Part Number 1: 497-8691-2-ND; ComponentLink1Description: Datasheet; ComponentLink1URL: http://www.st.com/web/en/resource/technical/document/datasheet/CD00103810.pdf; ComponentLink2Description: Digi-Key Listing; ComponentLink2URL: http://www.digikey.com/product-detail/en/M95256-WMN6TP/497-8691-2-ND/1664192; Price: 0.4435; Type: EEPROM; Device Package: 8-SOIC (0.154", 3.90mm Width); Operating Temperature: -40C ~ 85C; Memory Type: EEPROM; Memory Size: 256K (32K x 8); Speed: 5MHz
footprint ST SOIC-8N
pins: 1 CS, 2 SCLK, 3 MOSI, 4 MISO, 5 GND, 6 ORG, 8 VCC

## M95320-DFMN6TP
designator IC?, comment 32K (4K x 8)
IC EEPROM 32KB SPI BUS 8SOIC; Part Number: M95320-DFMN6TP; Manufacturer: STMicroelectronics; Speed: 20MHz; Interface: SPI Serial; Voltage - Supply: 1.7 V ~ 5.5 V; PartId: 8430; Supplier 1: Digi-Key; Supplier Part Number 1: 497-14920-2-ND; ComponentLink1Description: Datasheet; ComponentLink1URL: http://www.st.com/web/en/resource/technical/document/datasheet/CD00001399.pdf; ComponentLink2Description: Digi-Key Listing; ComponentLink2URL: http://www.digikey.com/product-detail/en/M95320-DFMN6TP/497-14920-2-ND/4959854; Price: 0.2402; Type: EEPROM; Device Package: 8-SOIC (0.154", 3.90mm Width); Operating Temperature: -40C ~ 85C; Memory Type: EEPROM; Memory Size: 32K (4K x 8)
footprint ST SOIC-8N
pins: 1 CS, 2 SCLK, 3 MOSI, 4 MISO, 5 GND, 6 ORG, 8 VCC

## M95320-DRDW3TP/K
designator IC?, comment 32K (4K x 8)
EEPROM SPI 32KB 8TSSOP; Part Number: M95320-DRDW3TP/K; Manufacturer: STMicroelectronics; Speed: 20MHz; Interface: SPI Serial; Voltage - Supply: 1.8 V ~ 5.5 V; PartId: 8449; Supplier 1: Digi-Key; Supplier Part Number 1: 497-14454-2-ND; ComponentLink1Description: Datasheet; ComponentLink1URL: http://www.st.com/web/en/resource/technical/document/datasheet/DM00050749.pdf; ComponentLink2Description: Digi-Key Listing; ComponentLink2URL: http://www.digikey.com/product-detail/en/M95320-DRDW3TP%2FK/497-14454-2-ND/4729258; Price: 0.3902; Type: EEPROM; Device Package: 8-TSSOP (0.173", 4.40mm Width); Operating Temperature: -40C ~ 125C; Memory Type: EEPROM; Memory Size: 32K (4K x 8)
footprint ST TSSOP-8
pins: 1 CS, 2 SCLK, 3 MOSI, 4 MISO, 5 GND, 6 ORG, 8 VCC

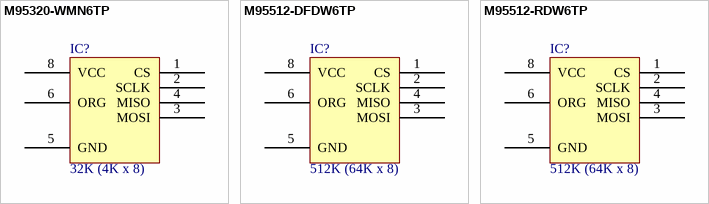
[diagram p4: symbols M95320-WMN6TP to M95512-RDW6TP]

## M95320-WMN6TP
designator IC?, comment 32K (4K x 8)
IC EEPROM 32KBIT 10MHZ 8SO; Part Number: M95320-WMN6TP; Manufacturer: STMicroelectronics; Interface: SPI Serial; Voltage - Supply: 2.5 V ~ 5.5 V; PartId: 8429; Supplier 1: Digi-Key; Supplier Part Number 1: 497-8694-2-ND; ComponentLink1Description: Datasheet; ComponentLink1URL: http://www.st.com/web/en/resource/technical/document/datasheet/CD00001399.pdf; ComponentLink2Description: Digi-Key Listing; ComponentLink2URL: http://www.digikey.com/product-detail/en/M95320-WMN6TP/497-8694-2-ND/1664200; Price: 0.2304; Type: EEPROM; Device Package: 8-SOIC (0.154", 3.90mm Width); Operating Temperature: -40C ~ 85C; Memory Type: EEPROM; Memory Size: 32K (4K x 8); Speed: 10MHz
footprint ST SOIC-8N
pins: 1 CS, 2 SCLK, 3 MOSI, 4 MISO, 5 GND, 6 ORG, 8 VCC

## M95512-DFDW6TP
designator IC?, comment 512K (64K x 8)
IC EEPROM 512KBIT 5MHZ 8TSSOP; Part Number: M95512-DFDW6TP; Manufacturer: STMicroelectronics; Interface: SPI Serial; Voltage - Supply: 1.7 V ~ 5.5 V; PartId: 8451; Supplier 1: Digi-Key; Supplier Part Number 1: 497-15777-2-ND; ComponentLink1Description: Datasheet; ComponentLink1URL: http://www.st.com/web/en/resource/technical/document/datasheet/CD00048102.pdf; ComponentLink2Description: Digi-Key Listing; ComponentLink2URL: http://www.digikey.com/product-detail/en/M95512-DFDW6TP/497-15777-2-ND/4357396; Price: 0.6184; Type: EEPROM; Device Package: 8-TSSOP (0.173", 4.40mm Width); Operating Temperature: -40C ~ 85C; Memory Type: EEPROM; Memory Size: 512K (64K x 8); Speed: 5MHz
footprint ST TSSOP-8
pins: 1 CS, 2 SCLK, 3 MOSI, 4 MISO, 5 GND, 6 ORG, 8 VCC

## M95512-RDW6TP
designator IC?, comment 512K (64K x 8)
IC EEPROM 512KBIT 5MHZ 8TSSOP; Part Number: M95512-RDW6TP; Manufacturer: STMicroelectronics; Interface: SPI Serial; Voltage - Supply: 1.8 V ~ 5.5 V; PartId: 8442; Supplier 1: Digi-Key; Supplier Part Number 1: 497-6358-2-ND; ComponentLink1Description: Datasheet; ComponentLink1URL: http://www.st.com/web/en/resource/technical/document/datasheet/CD00048102.pdf; ComponentLink2Description: Digi-Key Listing; ComponentLink2URL: http://www.digikey.com/product-detail/en/M95512-RDW6TP/497-6358-2-ND/1664202; Price: 0.6004; Type: EEPROM; Device Package: 8-TSSOP (0.173", 4.40mm Width); Operating Temperature: -40C ~ 85C; Memory Type: EEPROM; Memory Size: 512K (64K x 8); Speed: 5MHz
footprint ST TSSOP-8
pins: 1 CS, 2 SCLK, 3 MOSI, 4 MISO, 5 GND, 6 ORG, 8 VCC